# Altium footprint library Connector SIM Card.PcbLib: 1 footprints
Each footprint in its own frame and in the unit in brackets; x right, y up, seen from the top. Pads: shape width x height; smd on the part's side, far side on the other; paste and mask are expansions set on the pad; w line width, h text height; cw(c..) or ccw(c..) is an arc to the next point about the centre after c.
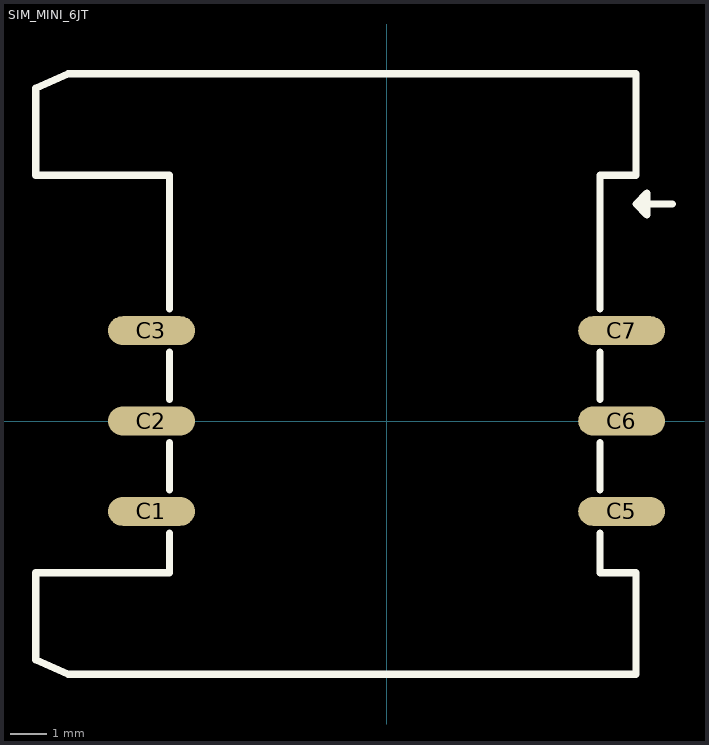
[diagram p0: the footprint, top view; thin cyan lines are the x and y axes]

## SIM_MINI_6JT [mm] "SIM MINI, JTCONN"
height 0.254
pads (6):
  oval 2.4x0.8 smd: C1(-6.501,-2.499) C2(-6.501,0) C3(-6.501,2.499) C5(6.501,-2.499) C6(6.501,0) C7(6.501,2.499)
Top Overlay:
  lines w0.2: -9.7,-6.6 -8.8,-7 ; -9.7,-4.2 -6,-4.2 -6,-3.1 ; -8.8,9.6 -9.7,9.2 -9.7,6.8 -6,6.8 -6,3.1 ; -6,-1.9 -6,-0.6 ; -6,0.6 -6,1.9 ; 5.9,-3.1 5.9,-4.2 6.9,-4.2 ; 5.9,-1.9 5.9,-0.6 ; 5.9,0.6 5.9,1.9 ; 5.9,3.1 5.9,6.8 6.9,6.8 ; 7.9,6 6.9,6 ; 6.9,6 7.2,6.3 7.2,5.7 6.9,6
  lines w0.203: -9.7,-6.6 -9.7,-4.2 ; -8.8,-7 6.9,-7 6.9,-4.2 ; -8.8,9.6 6.9,9.6 6.9,6.8
3D body "User Library-Sim Card Holder.step": height 1.8, standoff 0, extent -9.55,-6.9 6.75,9.5
3D body "SIM card.STEP": height 1.55, standoff 0.75, extent -8.9,-6.2 16.1,8.8